# EAGLE library part JOYSTICK (library joysticksparkfun)
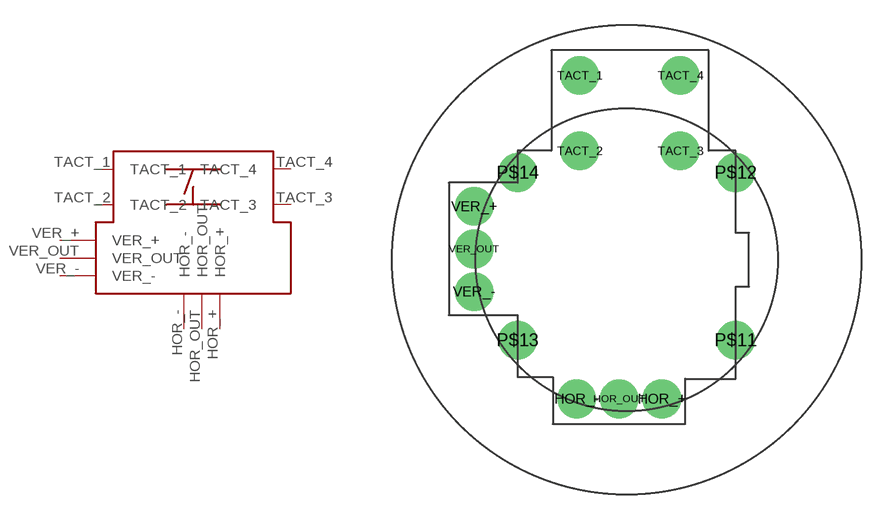
[diagram p0: symbol with the pads of JOYSTICK; footprint JOYSTICK]

Designator prefix JOYSTICK

## JOYSTICK  [JOYSTICK]
HOR_+  HOR_+
HOR_-  HOR_-
HOR_OUT  HOR_OUT
TACT_1  TACT_1
TACT_2  TACT_2
TACT_3  TACT_3
TACT_4  TACT_4
VER_+  VER_+
VER_-  VER_-
VER_OUT  VER_OUT

## Footprint JOYSTICK (pad centres in mm)
drill 1 pad 2.3: HOR_+ -4.4,-2; HOR_- -9.48,-2; HOR_OUT -6.94,-2; P$11 0,1.5; P$12 0,11.5; P$13 -13,1.5; P$14 -13,11.5; TACT_1 -9.3,17.3; TACT_2 -9.3,12.8; TACT_3 -3.3,12.8; TACT_4 -3.3,17.3; VER_+ -15.6,9.48; VER_- -15.6,4.4; VER_OUT -15.6,6.94